# Altium schematic symbol library RJ45_ETH.SchLib: 1 symbol
Pins are listed as number, name and electrical type; pins without a type are passive.

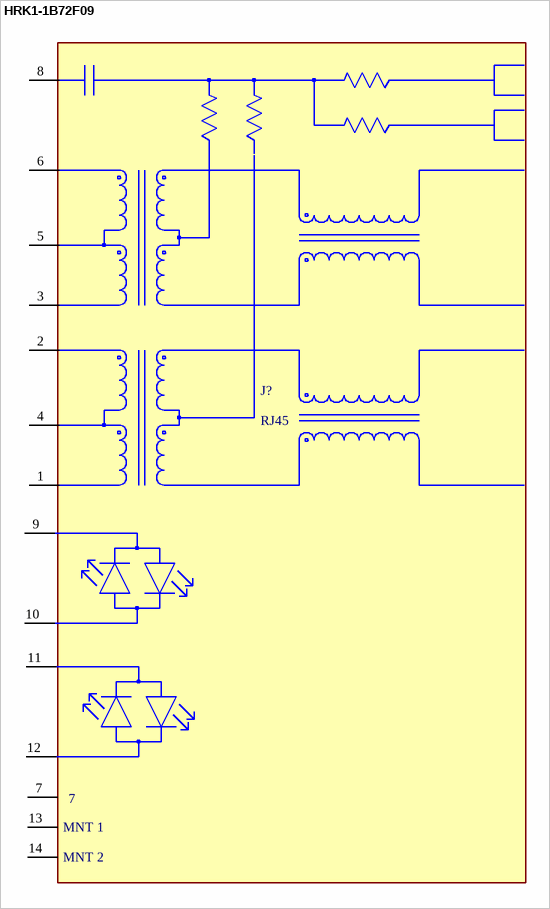
[diagram p0: symbol HRK1-1B72F09]

## HRK1-1B72F09
designator J?, comment RJ45
footprint RJ-45 (RJ-45  connector)
pins: 1, 2, 3, 4, 5, 6, 7, 8, 9 2 ANODE YELLOW/CATHODE GREEN, 10 2 CATHODE YELLOW/ANODE GREEN, 11 2 ANODE YELLOW/CATHODE GREEN, 12 2 CATHODE YELLOW/ANODE GREEN, 13 MNT 1, 14 MNT 2